# Altium schematic symbol library TME_0505S.SchLib: 1 symbol
Pins are listed as number, name and electrical type; pins without a type are passive.

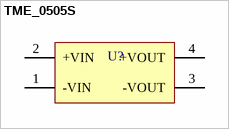
[diagram p0: symbol TME_0505S]

## TME_0505S
designator U?
Isolated Module DC DC Converter 1 Output 5V - - - 200mA 4.5V - 5.5V Input
pins: 1 -VIN (power), 2 +VIN (power), 3 -VOUT (power), 4 +VOUT (power)